# EAGLE library part ADL5523ACPZ (library receiver_2v0)
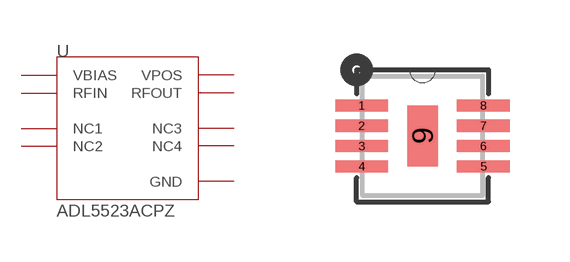
[diagram p0: symbol with the pads of CP-8-2; footprint CP-8-2]

Designator prefix U

## ADL5523ACPZ  [CP-8-2]
1  VBIAS  pas
2  RFIN  pas
3  NC1  pas
4  NC2  pas
5  NC3  pas
6  NC4  pas
7  RFOUT  pas
8  VPOS  pwr
9  GND  pas

## Footprint CP-8-2 (pad centres in mm)
smd 1.321 x 0.305: 1 -1.524,0.762; 2 -1.524,0.254; 3 -1.524,-0.254; 4 -1.524,-0.762; 5 1.524,-0.762; 6 1.524,-0.254; 7 1.524,0.254; 8 1.524,0.762
smd 0.76 x 1.52: 9 0,0